# Altium schematic symbol library Schlib1.SchLib: 20 symbols
Pins are listed as number, name and electrical type; pins without a type are passive.

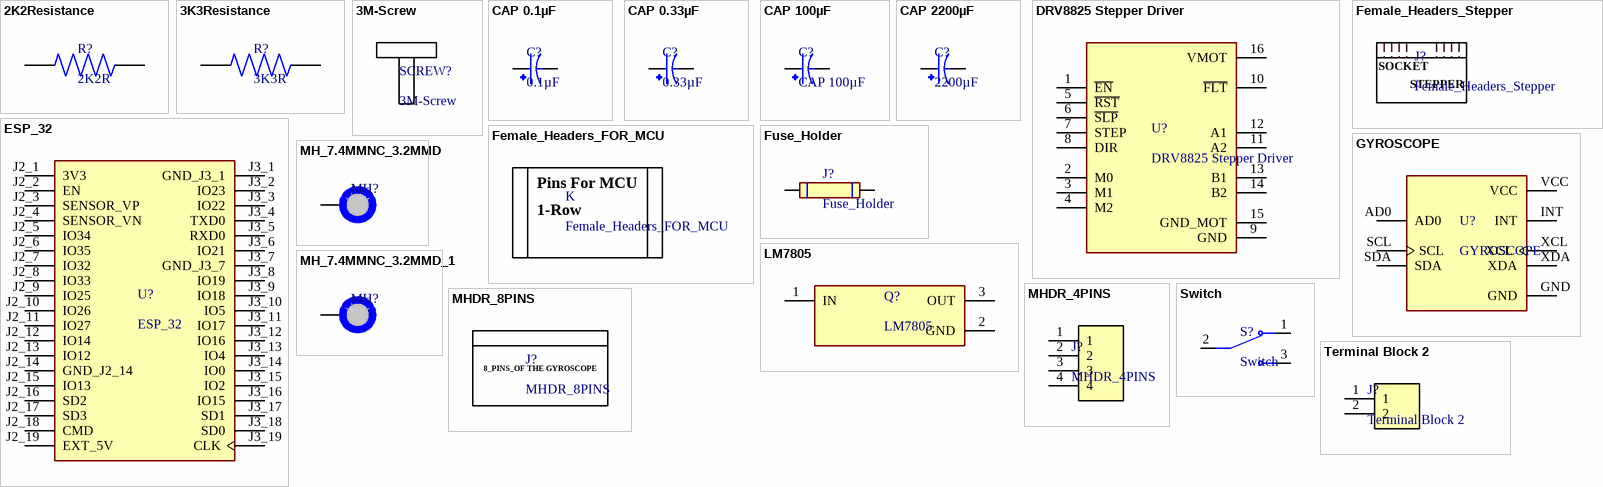
[diagram p0: symbols 2K2Resistance to Terminal Block 2]

## 2K2Resistance
designator R?, comment 2K2R
footprint 2K2R
pins: 1, 2

## 3K3Resistance
designator R?, comment 3K3R
footprint 3K3R
pins: 1, 2

## 3M-Screw
designator SCREW?  (mechanical)
footprint 3M-SCREW

## CAP 0.1µF
designator C?, comment 0.1µF
footprint CAP 0.1UF
pins: N, P

## CAP 0.33µF
designator C?, comment 0.33µF
footprint CAP 0.1UF
pins: N, P

## CAP 100µF
designator C?
footprint Cap_1µF
pins: N, P

## CAP 2200µF
designator C?, comment 2200µF
footprint CAP 2200UF
pins: N, P

## DRV8825 Stepper Driver
designator U?
footprint DRV8825 Stepper Driver
pins: 1 ~{EN}, 2 M0, 3 M1, 4 M2, 5 ~{RST}, 6 ~{SLP}, 7 STEP, 8 DIR, 9 GND, 10 ~{FLT}, 11 A2, 12 A1, 13 B1, 14 B2, 15 GND_MOT, 16 VMOT

## ESP_32
designator U?
footprint ESP_32
pins: J2_1 3V3, J2_2 EN, J2_3 SENSOR_VP, J2_4 SENSOR_VN, J2_5 IO34, J2_6 IO35, J2_7 IO32, J2_8 IO33, J2_9 IO25, J2_10 IO26, J2_11 IO27, J2_12 IO14, J2_13 IO12, J2_14 GND_J2_14, J2_15 IO13, J2_16 SD2, J2_17 SD3, J2_18 CMD, J2_19 EXT_5V, J3_1 GND_J3_1, J3_2 IO23, J3_3 IO22, J3_4 TXD0, J3_5 RXD0, J3_6 IO21, J3_7 GND_J3_7, J3_8 IO19, J3_9 IO18, J3_10 IO5, J3_11 IO17, J3_12 IO16, J3_13 IO4, J3_14 IO0, J3_15 IO2, J3_16 IO15, J3_17 SD1, J3_18 SD0, J3_19 CLK

## Female_Headers_FOR_MCU
designator K
footprint Female_headers
text: Pins For MCU; 1-Row

## Female_Headers_Stepper
designator J?
footprint Female_STEPPER
text: SOCKET; STEPPER

## Fuse_Holder
designator J?
footprint Fuse_Holder
pins: 1, 2

## GYROSCOPE
designator U?
footprint GYROSCOPE
pins: AD0, GND, INT, SCL, SDA, VCC, XCL, XDA

## LM7805
designator Q?
footprint LM7805
pins: 1 IN, 2 GND (power), 3 OUT

## MH_7.4MMNC_3.2MMD
designator MH?  (value not drawn)  (no BOM)
footprint MH_7.4MMC_3.2MMD
pins: 1

## MH_7.4MMNC_3.2MMD_1
designator MH?, comment MH_7.4MMNC_3.2MMD (NO COPPER-NPTH)  (value not drawn)  (no BOM)
footprint MH_7.4MMC_3.2MMD_NO_COPPER_NPTH
pins: 1

## MHDR_4PINS
designator J?
footprint MHDR_4PINS
pins: 1, 2, 3, 4

## MHDR_8PINS
designator J?
footprint MHDR_8PINS
text: 8_PINS_OF THE GYROSCOPE

## Switch
designator S?
footprint Switch
pins: 1, 2, 3

## Terminal Block 2
designator J?
footprint Terminal Block 2
pins: 1, 2